# Altium footprint library RV_AT_Ports.PcbLib: 7 footprints
Each footprint in its own frame and in the unit in brackets; x right, y up, seen from the top. Pads: shape width x height; smd on the part's side, far side on the other; paste and mask are expansions set on the pad; w line width, h text height; cw(c..) or ccw(c..) is an arc to the next point about the centre after c.
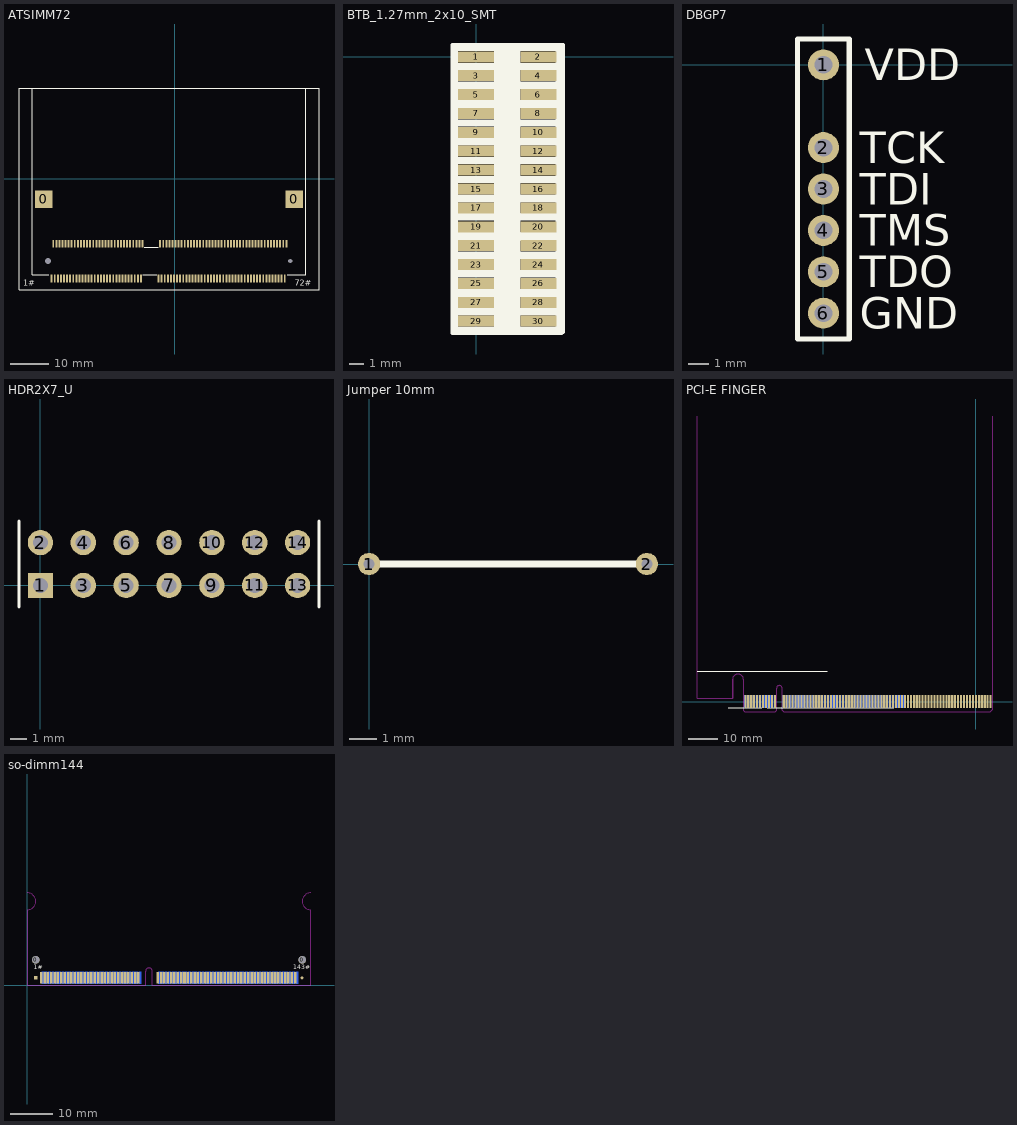
[diagram p0: the footprints below, top view; thin cyan lines are the x and y axes]

## ATSIMM72 [mm]
pads (148):
  rect 4.5x4.6 smd: 0(-34.07,-5.363) 0(31.03,-5.363)
  round 0.5 hole 1.6: 0(-33.02,-21.463)
  round 0.5 hole 1.1: 0(29.98,-21.463)
  rect 0.5x2 smd: 1(-32.02,-25.963) 1(-31.62,-16.963) 2(-31.22,-25.963) 2(-30.82,-16.963) 3(-30.42,-25.963) 3(-30.02,-16.963) 4(-29.62,-25.963) 4(-29.22,-16.963) 5(-28.82,-25.963) 5(-28.42,-16.963) 6(-28.02,-25.963) 6(-27.62,-16.963) 7(-27.22,-25.963) 7(-26.82,-16.963) 8(-26.42,-25.963) 8(-26.02,-16.963) 9(-25.62,-25.963) 9(-25.22,-16.963) 10(-24.82,-25.963) 10(-24.42,-16.963) 11(-24.02,-25.963) 11(-23.62,-16.963) 12(-23.22,-25.963) 12(-22.82,-16.963) 13(-22.42,-25.963) 13(-22.02,-16.963) 14(-21.62,-25.963) 14(-21.22,-16.963) 15(-20.82,-25.963) 15(-20.42,-16.963) 16(-20.02,-25.963) 16(-19.62,-16.963) 17(-19.22,-25.963) 17(-18.82,-16.963) 18(-18.42,-25.963) 18(-18.02,-16.963) 19(-17.62,-25.963) 19(-17.22,-16.963) 20(-16.82,-25.963) 20(-16.42,-16.963) 21(-16.02,-25.963) 21(-15.62,-16.963) 22(-15.22,-25.963) 22(-14.82,-16.963) 23(-14.42,-25.963) 23(-14.02,-16.963) 24(-13.62,-25.963) 24(-13.22,-16.963) 25(-12.82,-25.963) 25(-12.42,-16.963) 26(-12.02,-25.963) 26(-11.62,-16.963) 27(-11.22,-25.963) 27(-10.82,-16.963) 28(-10.42,-25.963) 28(-10.02,-16.963) 29(-9.62,-25.963) 29(-9.22,-16.963) 30(-8.82,-25.963) 30(-8.42,-16.963) 31(-4.22,-25.963) 31(-3.82,-16.963) 32(-3.42,-25.963) 32(-3.02,-16.963) 33(-2.62,-25.963) 33(-2.22,-16.963) 34(-1.82,-25.963) 34(-1.42,-16.963) 35(-1.02,-25.963) 35(-0.62,-16.963) 36(-0.22,-25.963) 36(0.18,-16.963) 37(0.58,-25.963) 37(0.98,-16.963) 38(1.38,-25.963) 38(1.78,-16.963) 39(2.18,-25.963) 39(2.58,-16.963) 40(2.98,-25.963) 40(3.38,-16.963) 41(3.78,-25.963) 41(4.18,-16.963) 42(4.58,-25.963) 42(4.98,-16.963) 43(5.38,-25.963) 43(5.78,-16.963) 44(6.18,-25.963) 44(6.58,-16.963) 45(6.98,-25.963) 45(7.38,-16.963) 46(7.78,-25.963) 46(8.18,-16.963) 47(8.58,-25.963) 47(8.98,-16.963) 48(9.38,-25.963) 48(9.78,-16.963) 49(10.18,-25.963) 49(10.58,-16.963) 50(10.98,-25.963) 50(11.38,-16.963) 51(11.78,-25.963) 51(12.18,-16.963) 52(12.58,-25.963) 52(12.98,-16.963) 53(13.38,-25.963) 53(13.78,-16.963) 54(14.18,-25.963) 54(14.58,-16.963) 55(14.98,-25.963) 55(15.38,-16.963) 56(15.78,-25.963) 56(16.18,-16.963) 57(16.58,-25.963) 57(16.98,-16.963) 58(17.38,-25.963) 58(17.78,-16.963) 59(18.18,-25.963) 59(18.58,-16.963) 60(18.98,-25.963) 60(19.38,-16.963) 61(19.78,-25.963) 61(20.18,-16.963) 62(20.58,-25.963) 62(20.98,-16.963) 63(21.38,-25.963) 63(21.78,-16.963) 64(22.18,-25.963) 64(22.58,-16.963) 65(22.98,-25.963) 65(23.38,-16.963) 66(23.78,-25.963) 66(24.18,-16.963) 67(24.58,-25.963) 67(24.98,-16.963) 68(25.38,-25.963) 68(25.78,-16.963) 69(26.18,-25.963) 69(26.58,-16.963) 70(26.98,-25.963) 70(27.38,-16.963) 71(27.78,-25.963) 71(28.18,-16.963) 72(28.58,-25.963) 72(28.98,-16.963)
Top Overlay:
  lines w0.254: -37.12,23.537 -37.12,-25.063 -32.72,-25.063 ; -8.32,-25.063 -4.72,-25.063 ; -7.92,-17.863 -4.32,-17.863 ; 29.28,-25.063 34.08,-25.063 34.08,23.537 ; -40.52,-28.963 -40.52,23.537 37.48,23.537 37.48,-28.963 -40.52,-28.963
  text "72#" at 31.115,-27.813 h1.52
  text "1#" at -39.37,-27.813 h1.52

## BTB_1.27mm_2x10_SMT [mm]
pads (30):
  rect 2.4x0.74 smd: 1(0,0) 2(4.2,0) 3(0,-1.27) 4(4.2,-1.27) 5(0,-2.54) 6(4.2,-2.54) 7(0,-3.81) 8(4.2,-3.81) 9(0,-5.08) 10(4.2,-5.08) 11(0,-6.35) 12(4.2,-6.35) 13(0,-7.62) 14(4.2,-7.62) 15(0,-8.89) 16(4.2,-8.89) 17(0,-10.16) 18(4.2,-10.16) 19(0,-11.43) 20(4.2,-11.43) 21(0,-12.7) 22(4.2,-12.7) 23(0,-13.97) 24(4.2,-13.97) 25(0,-15.24) 26(4.2,-15.24) 27(0,-16.51) 28(4.2,-16.51) 29(0,-17.78) 30(4.2,-17.78)
Top Overlay:
  rectangle: -1.3,-3.45 5.6,-2.9
  rectangle: -1.25,-4.7 5.6,-4.2
  rectangle: -1.3,-5.95 5.6,-5.45
  rectangle: -1.3,-7.2 5.7,-6.75
  rectangle: -1.25,-8.5 5.85,-8
  rectangle: -1.3,-9.8 5.9,-9.25
  rectangle: -1.3,-11 5.75,-10.5
  rectangle: 1.2,-18.25 3,0.5
  rectangle: -1.3,-2.15 5.6,-1.65
  rectangle: -1.4,-0.9 5.5,-0.4
  rectangle: -1.5,0.4 5.6,0.8
  rectangle: 5.35,-18.5 5.85,0.75
  rectangle: -1.6,-12.4 5.6,-11.8
  rectangle: -1.6,-18.6 -1.2,0.7
  rectangle: -1.5,-12.3 5.6,-11.9
  rectangle: -1.4,-13.6 5.5,-13.1
  rectangle: -1.3,-14.85 5.6,-14.35
  rectangle: -1.3,-18.65 5.6,-18.15
  rectangle: -1.25,-17.4 5.6,-16.9
  rectangle: -1.3,-16.15 5.65,-15.6
  lines w0.254: -1.6,-11.9 5.6,-11.9 ; 5.75,-18.6 -1.6,-18.6 -1.6,0.8 5.85,0.8 ; 5.85,-18.5 5.85,0.75

## DBGP7 [mm]
pads (6):
  round 1.5 hole 0.85: 1(0,0) 2(0,-4) 3(0,-6) 4(0,-8) 5(0,-10) 6(0,-12)
Top Overlay:
  lines w0.254: -1.25,-13.25 -1.25,1.25 1.25,1.25 1.25,-13.25 -1.25,-13.25
  text "VDD" at 2,-0.75 h1.52
  text "TCK" at 1.75,-4.75 h1.52
  text "TDI" at 1.75,-6.75 h1.52
  text "TMS" at 1.75,-8.75 h1.52
  text "TDO" at 1.75,-10.75 h1.52
  text "GND" at 1.75,-12.75 h1.52

## HDR2X7_U [mm] "Connector; Header; 7x2 Position"
pads (14):
  rect 1.5x1.5 hole 0.9: 1(0,0)
  round 1.5 hole 0.9: 2(0,2.54) 3(2.54,0) 4(2.54,2.54) 5(5.08,0) 6(5.08,2.54) 7(7.62,0) 8(7.62,2.54) 9(10.16,0) 10(10.16,2.54) 11(12.7,0) 12(12.7,2.54) 13(15.24,0) 14(15.24,2.54)
Top Overlay:
  lines w0.2: -1.27,-1.27 -1.27,3.81 ; 16.51,-1.27 16.51,3.81

## Jumper 10mm [mm]
pads (2):
  round 0.8 hole 0.4: 1(0,0) 2(10,0)
Top Overlay:
  lines w0.254: 0,0 10,0

## PCI-E FINGER [mm]
pads (135):
  rect 0.7x4.3 smd far side: A1(-77.947,0.01) A2(-76.95,0.011) A3(-75.95,0.011) A4(-74.95,0.011) A5(-73.95,0.011) A6(-72.95,0.011) A7(-71.95,0.011) A8(-70.95,0.011) A9(-69.95,0.011) A10(-68.95,0.011) A11(-67.95,0.011) A12(-64.95,0.011) A13(-63.95,0.011) A14(-62.95,0.011) A15(-61.95,0.011) A16(-60.95,0.011) A17(-59.95,0.011) A18(-58.95,0.011) A19(-57.95,0.011) A20(-56.95,0.011) A21(-55.95,0.011) A22(-54.95,0.011) A23(-53.95,0.011) A24(-52.95,0.011) A24(-31.95,0.011) A25(-51.95,0.011) A25(-30.95,0.011) A26(-50.95,0.011) A26(-29.95,0.011) A27(-49.95,0.011) A27(-28.95,0.011) A28(-48.95,0.011) A28(-27.95,0.011) A29(-47.95,0.011) A29(-26.95,0.011) A30(-46.95,0.011) A30(-25.95,0.011) A31(-45.95,0.011) A31(-24.95,0.011) A32(-44.95,0.011) A32(-23.95,0.011) A33(-43.95,0.011) A34(-42.95,0.011) A35(-41.95,0.011) A36(-40.95,0.011) A37(-39.95,0.011) A38(-38.95,0.011) A39(-37.95,0.011) A40(-36.95,0.011) A41(-35.95,0.011) A42(-34.95,0.011) A43(-33.95,0.011) A44(-32.95,0.011)
  rect 0.7x4.3 smd: B1(-77.95,0.01) B2(-76.95,0.01) B3(-75.95,0.01) B4(-74.95,0.01) B5(-73.95,0.01) B6(-72.95,0.01) B7(-71.95,0.01) B8(-70.95,0.01) B9(-69.95,0.01) B10(-68.95,0.01) B11(-67.95,0.01) B12(-64.95,0.01) B13(-63.95,0.01) B14(-62.95,0.01) B15(-61.95,0.01) B16(-60.95,0.01) B17(-59.95,0.01) B18(-58.95,0.01) B19(-57.95,0.01) B20(-56.95,0.01) B21(-55.95,0.01) B22(-54.95,0.01) B23(-53.95,0.01) B24(-52.95,0.01) B25(-51.95,0.01) B26(-50.95,0.01) B27(-49.95,0.01) B28(-48.95,0.01) B29(-47.95,0.01) B30(-46.95,0.01) B31(-45.95,0.01) B32(-44.95,0.01) B33(-43.95,0.01) B34(-42.95,0.01) B35(-41.95,0.01) B36(-40.95,0.01) B37(-39.95,0.01) B38(-38.95,0.01) B39(-37.95,0.01) B40(-36.95,0.01) B41(-35.95,0.01) B42(-34.95,0.01) B43(-33.95,0.01) B44(-32.95,0.01) B45(-31.95,0.01) B46(-30.95,0.01) B47(-29.95,0.01) B48(-28.95,0.01) B49(-27.95,0.01) B50(-26.95,0.01) B51(-25.95,0.01) B52(-24.95,0.01) B53(-23.95,0.01) B54(-22.95,0.01) B55(-21.95,0.01) B56(-20.95,0.01) B57(-19.95,0.01) B58(-18.95,0.01) B59(-17.95,0.01) B60(-16.95,0.01) B61(-15.95,0.01) B62(-14.95,0.01) B63(-13.95,0.01) B64(-12.95,0.01) B65(-11.95,0.01) B66(-10.95,0.01) B67(-9.95,0.01) B68(-8.95,0.01) B69(-7.95,0.01) B70(-6.95,0.01) B71(-5.95,0.01) B72(-4.95,0.01) B73(-3.95,0.01) B74(-2.95,0.01) B75(-1.95,0.01) B76(-0.95,0.01) B77(0.05,0.01) B78(1.05,0.01) B79(2.05,0.01) B80(3.05,0.01) B81(4.05,0.01) B82(5.05,0.01)
Top Overlay:
  lines w0.152: -94.299,10.301 -50.249,10.301 ; -83.65,-2.149 -72.45,-2.149 ; -70.55,-2.149 -27.726,-2.149
Keep-Out Layer:
  lines w0.152: -94.3,96.551 -94.3,1.052 -82.25,1.052 ; 5.7,4.91 5.7,-2.59 ; 5.7,96.551 5.7,-2.59 ; -82.25,7.486 cw(c-80.425,7.486) -78.6,7.486 -78.6,-2.939 -78.1,-3.439 -67.901,-3.439 -67.401,-2.939 -67.4,4.511 cw(c-66.451,4.504) -65.501,4.511 -65.501,-2.939 -65.001,-3.439 -44.301,-3.439 4.85,-3.439 5.7,-2.59 ; -82.25,7.485 -82.25,1.062 -82.25,7.485

## so-dimm144 [mm]
pads (148):
  round 1.8 hole 1.8: 0(2,6) 0(65.6,6)
  rect 0.6x2.8 smd: A1(3.3,1.727) A2(4.1,1.727) A3(4.9,1.727) A4(5.7,1.727) A5(6.5,1.727) A6(7.3,1.727) A7(8.1,1.727) A8(8.9,1.727) A9(9.7,1.727) A10(10.5,1.727) A11(11.3,1.727) A12(12.1,1.727) A13(12.9,1.727) A14(13.7,1.727) A15(14.5,1.727) A16(15.3,1.727) A17(16.1,1.727) A18(16.9,1.727) A19(17.7,1.727) A20(18.5,1.727) A21(19.3,1.727) A22(20.1,1.727) A23(20.9,1.727) A24(21.7,1.727) A25(22.5,1.727) A26(23.3,1.727) A27(24.1,1.727) A28(24.9,1.727) A29(25.7,1.727) A30(26.5,1.727) A31(31.1,1.727) A32(31.9,1.727) A33(32.7,1.727) A34(33.5,1.727) A35(34.3,1.727) A36(35.1,1.727) A37(35.9,1.727) A38(36.7,1.727) A39(37.5,1.727) A40(38.3,1.727) A41(39.1,1.727) A42(39.9,1.727) A43(40.7,1.727) A44(41.5,1.727) A45(42.3,1.727) A46(43.1,1.727) A47(43.9,1.727) A48(44.7,1.727) A49(45.5,1.727) A50(46.3,1.727) A51(47.1,1.727) A52(47.9,1.727) A53(48.7,1.727) A54(49.5,1.727) A55(50.3,1.727) A56(51.1,1.727) A57(51.9,1.727) A58(52.7,1.727) A59(53.5,1.727) A60(54.3,1.727) A61(55.1,1.727) A62(55.9,1.727) A63(56.7,1.727) A64(57.5,1.727) A65(58.3,1.727) A66(59.1,1.727) A67(59.9,1.727) A68(60.7,1.727) A69(61.5,1.727) A70(62.3,1.727) A71(63.1,1.727) A72(63.9,1.727)
  rect 0.6x2.8 smd far side: B1(3.7,1.727) B2(4.5,1.727) B3(5.3,1.727) B4(6.1,1.727) B5(6.9,1.727) B6(7.7,1.727) B7(8.5,1.727) B8(9.3,1.727) B9(10.1,1.727) B10(10.9,1.727) B11(11.7,1.727) B12(12.5,1.727) B13(13.3,1.727) B14(14.1,1.727) B15(14.9,1.727) B16(15.7,1.727) B17(16.5,1.727) B18(17.3,1.727) B19(18.1,1.727) B20(18.9,1.727) B21(19.7,1.727) B22(20.5,1.727) B23(21.3,1.727) B24(22.1,1.727) B25(22.9,1.727) B26(23.7,1.727) B27(24.5,1.727) B28(25.3,1.727) B29(26.1,1.727) B30(26.9,1.727) B31(31.5,1.727) B32(32.3,1.727) B33(33.1,1.727) B34(33.9,1.727) B35(34.7,1.727) B36(35.5,1.727) B37(36.3,1.727) B38(37.1,1.727) B39(37.9,1.727) B40(38.7,1.727) B41(39.5,1.727) B42(40.3,1.727) B43(41.1,1.727) B44(41.9,1.727) B45(42.7,1.727) B46(43.5,1.727) B47(44.3,1.727) B48(45.1,1.727) B49(45.9,1.727) B50(46.7,1.727) B51(47.5,1.727) B52(48.3,1.727) B53(49.1,1.727) B54(49.9,1.727) B55(50.7,1.727) B56(51.5,1.727) B57(52.3,1.727) B58(53.1,1.727) B59(53.9,1.727) B60(54.7,1.727) B61(55.5,1.727) B62(56.3,1.727) B63(57.1,1.727) B64(57.9,1.727) B65(58.7,1.727) B66(59.5,1.727) B67(60.3,1.727) B68(61.1,1.727) B69(61.9,1.727) B70(62.7,1.727) B71(63.5,1.727) B72(64.3,1.727)
  rect 0.8x0.8 smd: ""(2.036,1.727)
  round 0.7 smd: ""(65.536,1.727)
Top Overlay:
  text "143#" at 63.5,3.727 h1.02
  text "1#" at 1.5,3.727 h1.02
Bottom Overlay:
  text "144#" at 67,3.727 h1.02
  text "2#" at 3,3.727 h1.02
Keep-Out Layer:
  lines w0.254: 0,22 cw(c0,20) 0,18 0,0 28.2,0 28.2,3.3 cw(c29,3.3) 29.8,3.3 29.8,0 67.6,0 67.6,18 cw(c67.6,20) 67.6,22